# EAGLE library part PIN_3X9 (library pinhead_3row)
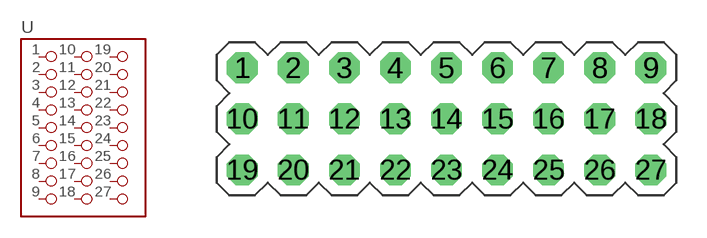
[diagram p5: symbol with the pads of PIN_3X9; footprint PIN_3X9]

Designator prefix -

## PIN_3X9  [PIN_3X9]
1  P$1
2  P$2
3  P$3
4  P$4
5  P$5
6  P$6
7  P$7
8  P$8
9  P$9
10  P$10
11  P$11
12  P$12
13  P$13
14  P$14
15  P$15
16  P$16
17  P$17
18  P$18
19  P$19
20  P$20
21  P$21
22  P$22
23  P$23
24  P$24
25  P$25
26  P$26
27  P$27

## Footprint PIN_3X9 (pad centres in mm)
drill 1.016 octagon: 1 1.27,-1.27; 2 3.81,-1.27; 3 6.35,-1.27; 4 8.89,-1.27; 5 11.43,-1.27; 6 13.97,-1.27; 7 16.51,-1.27; 8 19.05,-1.27; 9 21.59,-1.27; 10 1.27,-3.81; 11 3.81,-3.81; 12 6.35,-3.81; 13 8.89,-3.81; 14 11.43,-3.81; 15 13.97,-3.81; 16 16.51,-3.81; 17 19.05,-3.81; 18 21.59,-3.81; 19 1.27,-6.35; 20 3.81,-6.35; 21 6.35,-6.35; 22 8.89,-6.35; 23 11.43,-6.35; 24 13.97,-6.35; 25 16.51,-6.35; 26 19.05,-6.35; 27 21.59,-6.35